# Altium footprint library Fuse.PcbLib: 3 footprints
Each footprint in its own frame and in the unit in brackets; x right, y up, seen from the top. Pads: shape width x height; smd on the part's side, far side on the other; paste and mask are expansions set on the pad; w line width, h text height; cw(c..) or ccw(c..) is an arc to the next point about the centre after c.
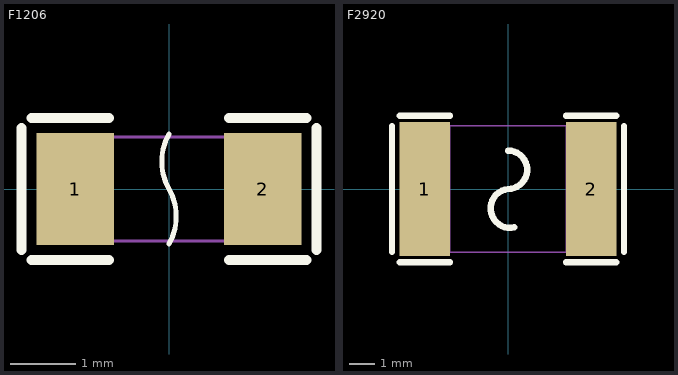
[diagram p0: the footprints below, top view; thin cyan lines are the x and y axes]

## F1206 [mm]
pads (2):
  rect 1.19x1.728 smd: 1(-1.445,0) 2(1.445,0)
Top Overlay:
  lines w0.076: 0,-0.845 ccw(c-0.732,-0.422) 0,0 cw(c0.732,0.422) 0,0.845
  lines w0.152: -2.269,-0.94 -2.269,0.94 ; -2.116,-1.093 -0.926,-1.093 ; -2.116,1.093 -0.926,1.093 ; 0.926,-1.093 2.116,-1.093 ; 0.926,1.093 2.116,1.093 ; 2.269,-0.94 2.269,0.94
Mechanical 15:
  region: 1.1,-0.8 1.6,-0.8 1.6,0.8 1.1,0.8
  region: -1.6,-0.8 -1.1,-0.8 -1.1,0.8 -1.6,0.8
  region: -1.54,-0.8 -1.54,-0.775 -1.575,-0.74 -1.625,-0.74 -1.66,-0.775 -1.66,-0.8 -1.66,-0.825 -1.625,-0.86 -1.575,-0.86 -1.54,-0.825 -1.54,-0.8
  lines w0.051: -1.6,-0.8 -1.6,0.8 1.6,0.8 1.6,-0.8 -1.6,-0.8

## F2920 [mm]
pads (2):
  rect 2x5.3 smd: 1(-3.3,0) 2(3.3,0)
Top Overlay:
  lines w0.254: -4.6,-2.5 -4.6,2.5 ; -4.3,-2.9 -2.3,-2.9 ; -4.3,2.9 -2.3,2.9 ; 0,1.524 cw(c0,0.762) 0,0 ccw(c0.085,-0.769) 0.254,-1.524 ; 2.3,-2.9 4.3,-2.9 ; 2.3,2.9 4.3,2.9 ; 4.6,-2.5 4.6,2.5
Mechanical 15:
  region: 3.7,-2.5 2.3,-2.5 2.3,2.5 3.7,2.5
  region: -3.7,2.5 -2.3,2.5 -2.3,-2.5 -3.7,-2.5
  region: -3.64,-2.5 -3.64,-2.475 -3.675,-2.44 -3.725,-2.44 -3.76,-2.475 -3.76,-2.5 -3.76,-2.525 -3.725,-2.56 -3.675,-2.56 -3.64,-2.525 -3.64,-2.5
  lines w0.051: -3.7,-2.5 -3.7,2.5 3.7,2.5 3.7,-2.5 -3.7,-2.5

## PCBComponent_1 [mm]